# EAGLE library part 87758-0816 (library berg_con_2mm_8pin)
8 Pin - 2mm Dual Row Single Wafer, Vertical T/H HDR Source: http://www.molex.com/pdm_docs/sd/877580616_sd.pdf
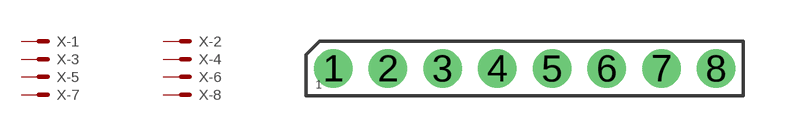
[diagram p0: symbol with the pads of 87758-0816; footprint 87758-0816]

Designator prefix X; gates -1=MV -2=MV -3=M -4=M -5=M -6=M -7=M -8=M

## 87758-0816 (MF: MOLEX; MPN: 87758-0816; OC_FARNELL: 7472331; OC_NEWARK: 59J1556)  [87758-0816]
1  -1:S  pas
2  -2:S  pas
3  -3:S  pas
4  -4:S  pas
5  -5:S  pas
6  -6:S  pas
7  -7:S  pas
8  -8:S  pas

## Footprint 87758-0816 (pad centres in mm)
8 Pin - 2mm Dual Row Single Wafer, Vertical T/H HDR Source: http://www.molex.com/pdm_docs/sd/877580616_sd.pdf
drill 0.9 pad 1.27: 1 -3,-1; 2 -1,-1; 3 1,-1; 4 3,-1; 5 5,-1; 6 7,-1; 7 9,-1; 8 11,-1